# Altium schematic symbol library JS202011SCQN.SchLib: 1 symbol
Pins are listed as number, name and electrical type; pins without a type are passive.

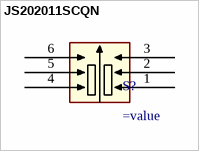
[diagram p0: symbol JS202011SCQN]

## JS202011SCQN
designator S?
pins: 1, 2, 3, 4, 5, 6